# Altium schematic symbol library kmilo17pet-TI_BattMgmt.SchLib: 950 symbols (part 56 of 60)
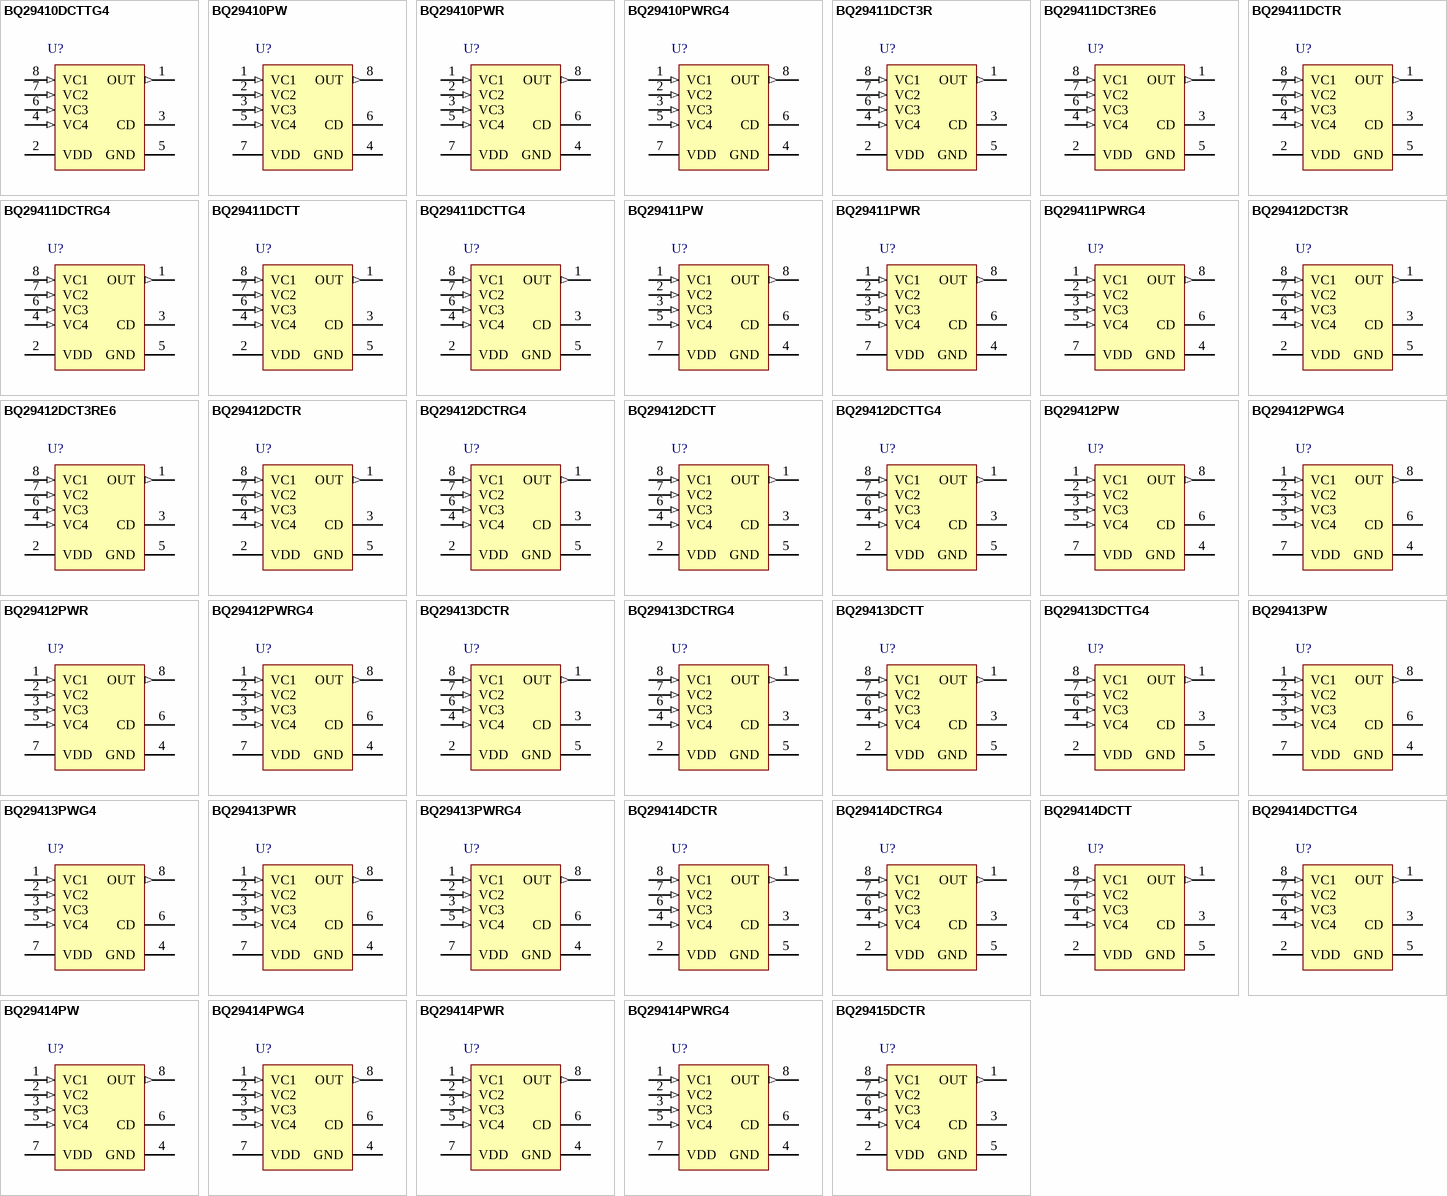
[diagram p89: symbols BQ29410DCTTG4 to BQ29415DCTR]

## BQ29412PWRG4
designator U?
Secondary Over Voltage Protection for 2 to 4 Cell in Series Li-Ion / Poly (4.45 V), 8-pin TSSOP (PW), Green (RoHS & no Sb/Br); PartNumber: BQ29412PWRG4; Manufacturer: Texas Instruments; Lead Acid: N; Li-Ion: Y; SubFamily: Lithium Ion Protection; DatasheetVersion: SLUS669G; PackageVersion: revG, Feb-2011; PackageReference: PW8; PackageDescription: 8-Pin Plastic Thin Small Outline Package 3 x 4.4 mm Body ,0.65 mm Pitch; Supplier 1: Digi-Key; Supplier Part Number 1: 296-21724-2-ND; Supplier Part Number 3: 296-21724-6-ND; Eco-Plan: Green (RoHS & no Sb/Br); Li-Polymer: Y; NiCd: N; NiMH: N; Over Voltage Protection: Y; Mounting Technology: Surface Mount; Code_JEDEC: MO-153; ComponentLink1Description: Datasheet; ComponentLink1URL: http://www.ti.com/general/docs/lit/getliterature.tsp?genericPartNumber=BQ29412&fileType=pdf
footprint PW8_N (TSOP, 8-Leads, Body 3x4.4mm, Pitch 0.65mm, IPC Medium Density)
footprint PW8_L (TSOP, 8-Leads, Body 3x4.4mm, Pitch 0.65mm, IPC High Density)
footprint PW8_M (TSOP, 8-Leads, Body 3x4.4mm, Pitch 0.65mm, IPC Low Density)
pins: 1 VC1 (in) "Sense voltage input for most positive cell", 2 VC2 (in) "Sense voltage input for second most positive cell", 3 VC3 (in) "Sense voltage input for third most positive cell", 4 GND (power) "Ground pin", 5 VC4 (in) "Sense voltage input for least positive cell", 6 CD "An external capacitor is connected to determine the programmable delay time", 7 VDD (power) "Power supply", 8 OUT (out) "Output"

## BQ29413DCTR
designator U?
Secondary Over Voltage Protection for 2 to 4 Cell in Series Li-Ion / Poly (4.50 V), -40 to 110 degC, 8-pin SM8 (DCT), Green (RoHS & no Sb/Br); PartNumber: BQ29413DCTR; Manufacturer: Texas Instruments; Lead Acid: N; Over Voltage Protection: Y; SubFamily: Lithium Ion Protection; DatasheetVersion: SLUS669G; PackageVersion: revC, Sep-2002; PackageReference: DCT8; PackageDescription: 8-Pin Thin Small Outline Package 3 x 2.8 mm Body ,0.65 mm Pitch; Supplier 1: Digi-Key; Supplier Part Number 1: 296-21328-2-ND; Supplier Part Number 3: 296-21328-6-ND; Eco-Plan: Green (RoHS & no Sb/Br); Li-Ion: N; Li-Polymer: N; NiCd: N; NiMH: N; Mounting Technology: Surface Mount; Code_JEDEC: MO-187-DA; ComponentLink1Description: Datasheet; ComponentLink1URL: http://www.ti.com/general/docs/lit/getliterature.tsp?genericPartNumber=BQ29413&fileType=pdf
footprint DCT8_N (TSOP, 8-Leads, Body 3x2.8mm, Pitch 0.65mm, IPC Medium Density)
footprint DCT8_L (TSOP, 8-Leads, Body 3x2.8mm, Pitch 0.65mm, IPC High Density)
footprint DCT8_M (TSOP, 8-Leads, Body 3x2.8mm, Pitch 0.65mm, IPC Low Density)
pins: 1 OUT (out) "Output", 2 VDD (power) "Power supply", 3 CD "An external capacitor is connected to determine the programmable delay time", 4 VC4 (in) "Sense voltage input for least positive cell", 5 GND (power) "Ground pin", 6 VC3 (in) "Sense voltage input for third most positive cell", 7 VC2 (in) "Sense voltage input for second most positive cell", 8 VC1 (in) "Sense voltage input for most positive cell"

## BQ29413DCTRG4
designator U?
Secondary Over Voltage Protection for 2 to 4 Cell in Series Li-Ion / Poly (4.50 V), -40 to 110 degC, 8-pin SM8 (DCT), Green (RoHS & no Sb/Br); PartNumber: BQ29413DCTRG4; Manufacturer: Texas Instruments; Lead Acid: N; Over Voltage Protection: Y; SubFamily: Lithium Ion Protection; DatasheetVersion: SLUS669G; PackageVersion: revC, Sep-2002; PackageReference: DCT8; PackageDescription: 8-Pin Thin Small Outline Package 3 x 2.8 mm Body ,0.65 mm Pitch; Supplier 1: Digi-Key; Supplier Part Number 1: BQ29413DCTRG4-ND; Supplier Part Number 3: 595-BQ29413DCTRG4; Eco-Plan: Green (RoHS & no Sb/Br); Li-Ion: N; Li-Polymer: N; NiCd: N; NiMH: N; Mounting Technology: Surface Mount; Code_JEDEC: MO-187-DA; ComponentLink1Description: Datasheet; ComponentLink1URL: http://www.ti.com/general/docs/lit/getliterature.tsp?genericPartNumber=BQ29413&fileType=pdf
footprint DCT8_N (TSOP, 8-Leads, Body 3x2.8mm, Pitch 0.65mm, IPC Medium Density)
footprint DCT8_L (TSOP, 8-Leads, Body 3x2.8mm, Pitch 0.65mm, IPC High Density)
footprint DCT8_M (TSOP, 8-Leads, Body 3x2.8mm, Pitch 0.65mm, IPC Low Density)
pins: 1 OUT (out) "Output", 2 VDD (power) "Power supply", 3 CD "An external capacitor is connected to determine the programmable delay time", 4 VC4 (in) "Sense voltage input for least positive cell", 5 GND (power) "Ground pin", 6 VC3 (in) "Sense voltage input for third most positive cell", 7 VC2 (in) "Sense voltage input for second most positive cell", 8 VC1 (in) "Sense voltage input for most positive cell"

## BQ29413DCTT
designator U?
Secondary Over Voltage Protection for 2 to 4 Cell in Series Li-Ion / Poly (4.50 V), -40 to 110 degC, 8-pin SM8 (DCT), Green (RoHS & no Sb/Br); PartNumber: BQ29413DCTT; Manufacturer: Texas Instruments; Lead Acid: N; Over Voltage Protection: Y; SubFamily: Lithium Ion Protection; DatasheetVersion: SLUS669G; PackageVersion: revC, Sep-2002; PackageReference: DCT8; PackageDescription: 8-Pin Thin Small Outline Package 3 x 2.8 mm Body ,0.65 mm Pitch; Supplier 1: Digi-Key; Supplier Part Number 1: 296-32041-2-ND; Supplier Part Number 3: 296-32041-6-ND; Eco-Plan: Green (RoHS & no Sb/Br); Li-Ion: N; Li-Polymer: N; NiCd: N; NiMH: N; Mounting Technology: Surface Mount; Code_JEDEC: MO-187-DA; ComponentLink1Description: Datasheet; ComponentLink1URL: http://www.ti.com/general/docs/lit/getliterature.tsp?genericPartNumber=BQ29413&fileType=pdf
footprint DCT8_N (TSOP, 8-Leads, Body 3x2.8mm, Pitch 0.65mm, IPC Medium Density)
footprint DCT8_L (TSOP, 8-Leads, Body 3x2.8mm, Pitch 0.65mm, IPC High Density)
footprint DCT8_M (TSOP, 8-Leads, Body 3x2.8mm, Pitch 0.65mm, IPC Low Density)
pins: 1 OUT (out) "Output", 2 VDD (power) "Power supply", 3 CD "An external capacitor is connected to determine the programmable delay time", 4 VC4 (in) "Sense voltage input for least positive cell", 5 GND (power) "Ground pin", 6 VC3 (in) "Sense voltage input for third most positive cell", 7 VC2 (in) "Sense voltage input for second most positive cell", 8 VC1 (in) "Sense voltage input for most positive cell"

## BQ29413DCTTG4
designator U?
Secondary Over Voltage Protection for 2 to 4 Cell in Series Li-Ion / Poly (4.50 V), -40 to 110 degC, 8-pin SM8 (DCT), Green (RoHS & no Sb/Br); PartNumber: BQ29413DCTTG4; Manufacturer: Texas Instruments; Lead Acid: N; Over Voltage Protection: Y; SubFamily: Lithium Ion Protection; DatasheetVersion: SLUS669G; PackageVersion: revC, Sep-2002; PackageReference: DCT8; PackageDescription: 8-Pin Thin Small Outline Package 3 x 2.8 mm Body ,0.65 mm Pitch; Supplier 1: Digi-Key; Supplier Part Number 1: BQ29413DCTTG4-ND; Eco-Plan: Green (RoHS & no Sb/Br); Li-Ion: N; Li-Polymer: N; NiCd: N; NiMH: N; Mounting Technology: Surface Mount; Code_JEDEC: MO-187-DA; ComponentLink1Description: Datasheet; ComponentLink1URL: http://www.ti.com/general/docs/lit/getliterature.tsp?genericPartNumber=BQ29413&fileType=pdf
footprint DCT8_N (TSOP, 8-Leads, Body 3x2.8mm, Pitch 0.65mm, IPC Medium Density)
footprint DCT8_L (TSOP, 8-Leads, Body 3x2.8mm, Pitch 0.65mm, IPC High Density)
footprint DCT8_M (TSOP, 8-Leads, Body 3x2.8mm, Pitch 0.65mm, IPC Low Density)
pins: 1 OUT (out) "Output", 2 VDD (power) "Power supply", 3 CD "An external capacitor is connected to determine the programmable delay time", 4 VC4 (in) "Sense voltage input for least positive cell", 5 GND (power) "Ground pin", 6 VC3 (in) "Sense voltage input for third most positive cell", 7 VC2 (in) "Sense voltage input for second most positive cell", 8 VC1 (in) "Sense voltage input for most positive cell"

## BQ29413PW
designator U?
Secondary Over Voltage Protection for 2 to 4 Cell in Series Li-Ion / Poly (4.50 V), -40 to 110 degC, 8-pin TSSOP (PW), Green (RoHS & no Sb/Br); PartNumber: BQ29413PW; Manufacturer: Texas Instruments; Lead Acid: N; Over Voltage Protection: Y; SubFamily: Lithium Ion Protection; DatasheetVersion: SLUS669G; PackageVersion: revG, Feb-2011; PackageReference: PW8; PackageDescription: 8-Pin Plastic Thin Small Outline Package 3 x 4.4 mm Body ,0.65 mm Pitch; Supplier 1: Digi-Key; Supplier Part Number 1: BQ29413PW-ND; Eco-Plan: Green (RoHS & no Sb/Br); Li-Ion: N; Li-Polymer: N; NiCd: N; NiMH: N; Mounting Technology: Surface Mount; Code_JEDEC: MO-153; ComponentLink1Description: Datasheet; ComponentLink1URL: http://www.ti.com/general/docs/lit/getliterature.tsp?genericPartNumber=BQ29413&fileType=pdf
footprint PW8_N (TSOP, 8-Leads, Body 3x4.4mm, Pitch 0.65mm, IPC Medium Density)
footprint PW8_L (TSOP, 8-Leads, Body 3x4.4mm, Pitch 0.65mm, IPC High Density)
footprint PW8_M (TSOP, 8-Leads, Body 3x4.4mm, Pitch 0.65mm, IPC Low Density)
pins: 1 VC1 (in) "Sense voltage input for most positive cell", 2 VC2 (in) "Sense voltage input for second most positive cell", 3 VC3 (in) "Sense voltage input for third most positive cell", 4 GND (power) "Ground pin", 5 VC4 (in) "Sense voltage input for least positive cell", 6 CD "An external capacitor is connected to determine the programmable delay time", 7 VDD (power) "Power supply", 8 OUT (out) "Output"

## BQ29413PWG4
designator U?
Secondary Over Voltage Protection for 2 to 4 Cell in Series Li-Ion / Poly (4.50 V), -40 to 110 degC, 8-pin TSSOP (PW), Green (RoHS & no Sb/Br); PartNumber: BQ29413PWG4; Manufacturer: Texas Instruments; Lead Acid: N; Over Voltage Protection: Y; SubFamily: Lithium Ion Protection; DatasheetVersion: SLUS669G; PackageVersion: revG, Feb-2011; PackageReference: PW8; PackageDescription: 8-Pin Plastic Thin Small Outline Package 3 x 4.4 mm Body ,0.65 mm Pitch; Supplier 1: Digi-Key; Supplier Part Number 1: BQ29413PWG4-ND; Eco-Plan: Green (RoHS & no Sb/Br); Li-Ion: N; Li-Polymer: N; NiCd: N; NiMH: N; Mounting Technology: Surface Mount; Code_JEDEC: MO-153; ComponentLink1Description: Datasheet; ComponentLink1URL: http://www.ti.com/general/docs/lit/getliterature.tsp?genericPartNumber=BQ29413&fileType=pdf
footprint PW8_N (TSOP, 8-Leads, Body 3x4.4mm, Pitch 0.65mm, IPC Medium Density)
footprint PW8_L (TSOP, 8-Leads, Body 3x4.4mm, Pitch 0.65mm, IPC High Density)
footprint PW8_M (TSOP, 8-Leads, Body 3x4.4mm, Pitch 0.65mm, IPC Low Density)
pins: 1 VC1 (in) "Sense voltage input for most positive cell", 2 VC2 (in) "Sense voltage input for second most positive cell", 3 VC3 (in) "Sense voltage input for third most positive cell", 4 GND (power) "Ground pin", 5 VC4 (in) "Sense voltage input for least positive cell", 6 CD "An external capacitor is connected to determine the programmable delay time", 7 VDD (power) "Power supply", 8 OUT (out) "Output"

## BQ29413PWR
designator U?
Secondary Over Voltage Protection for 2 to 4 Cell in Series Li-Ion / Poly (4.50 V), -40 to 110 degC, 8-pin TSSOP (PW), Green (RoHS & no Sb/Br); PartNumber: BQ29413PWR; Manufacturer: Texas Instruments; Lead Acid: N; Over Voltage Protection: Y; SubFamily: Lithium Ion Protection; DatasheetVersion: SLUS669G; PackageVersion: revG, Feb-2011; PackageReference: PW8; PackageDescription: 8-Pin Plastic Thin Small Outline Package 3 x 4.4 mm Body ,0.65 mm Pitch; Supplier 1: Digi-Key; Supplier Part Number 1: 296-21329-2-ND; Supplier Part Number 3: 296-21329-6-ND; Eco-Plan: Green (RoHS & no Sb/Br); Li-Ion: N; Li-Polymer: N; NiCd: N; NiMH: N; Mounting Technology: Surface Mount; Code_JEDEC: MO-153; ComponentLink1Description: Datasheet; ComponentLink1URL: http://www.ti.com/general/docs/lit/getliterature.tsp?genericPartNumber=BQ29413&fileType=pdf
footprint PW8_N (TSOP, 8-Leads, Body 3x4.4mm, Pitch 0.65mm, IPC Medium Density)
footprint PW8_L (TSOP, 8-Leads, Body 3x4.4mm, Pitch 0.65mm, IPC High Density)
footprint PW8_M (TSOP, 8-Leads, Body 3x4.4mm, Pitch 0.65mm, IPC Low Density)
pins: 1 VC1 (in) "Sense voltage input for most positive cell", 2 VC2 (in) "Sense voltage input for second most positive cell", 3 VC3 (in) "Sense voltage input for third most positive cell", 4 GND (power) "Ground pin", 5 VC4 (in) "Sense voltage input for least positive cell", 6 CD "An external capacitor is connected to determine the programmable delay time", 7 VDD (power) "Power supply", 8 OUT (out) "Output"

## BQ29413PWRG4
designator U?
Secondary Over Voltage Protection for 2 to 4 Cell in Series Li-Ion / Poly (4.50 V), -40 to 110 degC, 8-pin TSSOP (PW), Green (RoHS & no Sb/Br); PartNumber: BQ29413PWRG4; Manufacturer: Texas Instruments; Lead Acid: N; Over Voltage Protection: Y; SubFamily: Lithium Ion Protection; DatasheetVersion: SLUS669G; PackageVersion: revG, Feb-2011; PackageReference: PW8; PackageDescription: 8-Pin Plastic Thin Small Outline Package 3 x 4.4 mm Body ,0.65 mm Pitch; Supplier 1: Digi-Key; Supplier Part Number 1: BQ29413PWRG4-ND; Supplier Part Number 3: 595-BQ29413PWRG4; Eco-Plan: Green (RoHS & no Sb/Br); Li-Ion: N; Li-Polymer: N; NiCd: N; NiMH: N; Mounting Technology: Surface Mount; Code_JEDEC: MO-153; ComponentLink1Description: Datasheet; ComponentLink1URL: http://www.ti.com/general/docs/lit/getliterature.tsp?genericPartNumber=BQ29413&fileType=pdf
footprint PW8_N (TSOP, 8-Leads, Body 3x4.4mm, Pitch 0.65mm, IPC Medium Density)
footprint PW8_L (TSOP, 8-Leads, Body 3x4.4mm, Pitch 0.65mm, IPC High Density)
footprint PW8_M (TSOP, 8-Leads, Body 3x4.4mm, Pitch 0.65mm, IPC Low Density)
pins: 1 VC1 (in) "Sense voltage input for most positive cell", 2 VC2 (in) "Sense voltage input for second most positive cell", 3 VC3 (in) "Sense voltage input for third most positive cell", 4 GND (power) "Ground pin", 5 VC4 (in) "Sense voltage input for least positive cell", 6 CD "An external capacitor is connected to determine the programmable delay time", 7 VDD (power) "Power supply", 8 OUT (out) "Output"

## BQ29414DCTR
designator U?
Secondary Over-Voltage Protection for 2 to 4 Cell in Series Li-Ion / Poly (4.55 V), -40 to 110 degC, 8-pin SM8 (DCT), Green (RoHS & no Sb/Br); PartNumber: BQ29414DCTR; Manufacturer: Texas Instruments; Lead Acid: N; Li-Ion: Y; SubFamily: Lithium Ion Protection; DatasheetVersion: SLUS669G; PackageVersion: revC, Sep-2002; PackageReference: DCT8; PackageDescription: 8-Pin Thin Small Outline Package 3 x 2.8 mm Body ,0.65 mm Pitch; Supplier 1: Digi-Key; Supplier Part Number 1: 296-21377-2-ND; Supplier Part Number 3: 296-21377-6-ND; Eco-Plan: Green (RoHS & no Sb/Br); Li-Polymer: Y; NiCd: N; NiMH: N; Over Voltage Protection: Y; Mounting Technology: Surface Mount; Code_JEDEC: MO-187-DA; ComponentLink1Description: Datasheet; ComponentLink1URL: http://www.ti.com/general/docs/lit/getliterature.tsp?genericPartNumber=BQ29414&fileType=pdf
footprint DCT8_N (TSOP, 8-Leads, Body 3x2.8mm, Pitch 0.65mm, IPC Medium Density)
footprint DCT8_L (TSOP, 8-Leads, Body 3x2.8mm, Pitch 0.65mm, IPC High Density)
footprint DCT8_M (TSOP, 8-Leads, Body 3x2.8mm, Pitch 0.65mm, IPC Low Density)
pins: 1 OUT (out) "Output", 2 VDD (power) "Power supply", 3 CD "An external capacitor is connected to determine the programmable delay time", 4 VC4 (in) "Sense voltage input for least positive cell", 5 GND (power) "Ground pin", 6 VC3 (in) "Sense voltage input for third most positive cell", 7 VC2 (in) "Sense voltage input for second most positive cell", 8 VC1 (in) "Sense voltage input for most positive cell"

## BQ29414DCTRG4
designator U?
Secondary Over Voltage Protection for 2 to 4 Cell in Series Li-Ion / Poly (4.55 V), -40 to 110 degC, 8-pin SM8 (DCT), Green (RoHS & no Sb/Br); PartNumber: BQ29414DCTRG4; Manufacturer: Texas Instruments; Lead Acid: N; Li-Ion: Y; SubFamily: Lithium Ion Protection; DatasheetVersion: SLUS669G; PackageVersion: revC, Sep-2002; PackageReference: DCT8; PackageDescription: 8-Pin Thin Small Outline Package 3 x 2.8 mm Body ,0.65 mm Pitch; Supplier 1: Digi-Key; Supplier Part Number 1: BQ29414DCTRG4-ND; Supplier Part Number 3: 595-BQ29414DCTRG4; Eco-Plan: Green (RoHS & no Sb/Br); Li-Polymer: Y; NiCd: N; NiMH: N; Over Voltage Protection: Y; Mounting Technology: Surface Mount; Code_JEDEC: MO-187-DA; ComponentLink1Description: Datasheet; ComponentLink1URL: http://www.ti.com/general/docs/lit/getliterature.tsp?genericPartNumber=BQ29414&fileType=pdf
footprint DCT8_N (TSOP, 8-Leads, Body 3x2.8mm, Pitch 0.65mm, IPC Medium Density)
footprint DCT8_L (TSOP, 8-Leads, Body 3x2.8mm, Pitch 0.65mm, IPC High Density)
footprint DCT8_M (TSOP, 8-Leads, Body 3x2.8mm, Pitch 0.65mm, IPC Low Density)
pins: 1 OUT (out) "Output", 2 VDD (power) "Power supply", 3 CD "An external capacitor is connected to determine the programmable delay time", 4 VC4 (in) "Sense voltage input for least positive cell", 5 GND (power) "Ground pin", 6 VC3 (in) "Sense voltage input for third most positive cell", 7 VC2 (in) "Sense voltage input for second most positive cell", 8 VC1 (in) "Sense voltage input for most positive cell"

## BQ29414DCTT
designator U?
Secondary Over Voltage Protection for 2 to 4 Cell in Series Li-Ion / Poly (4.55 V), -40 to 110 degC, 8-pin SM8 (DCT), Green (RoHS & no Sb/Br); PartNumber: BQ29414DCTT; Manufacturer: Texas Instruments; Lead Acid: N; Li-Ion: Y; SubFamily: Lithium Ion Protection; DatasheetVersion: SLUS669G; PackageVersion: revC, Sep-2002; PackageReference: DCT8; PackageDescription: 8-Pin Thin Small Outline Package 3 x 2.8 mm Body ,0.65 mm Pitch; Supplier 1: Digi-Key; Supplier Part Number 1: BQ29414DCTT-ND; Eco-Plan: Green (RoHS & no Sb/Br); Li-Polymer: Y; NiCd: N; NiMH: N; Over Voltage Protection: Y; Mounting Technology: Surface Mount; Code_JEDEC: MO-187-DA; ComponentLink1Description: Datasheet; ComponentLink1URL: http://www.ti.com/general/docs/lit/getliterature.tsp?genericPartNumber=BQ29414&fileType=pdf
footprint DCT8_N (TSOP, 8-Leads, Body 3x2.8mm, Pitch 0.65mm, IPC Medium Density)
footprint DCT8_L (TSOP, 8-Leads, Body 3x2.8mm, Pitch 0.65mm, IPC High Density)
footprint DCT8_M (TSOP, 8-Leads, Body 3x2.8mm, Pitch 0.65mm, IPC Low Density)
pins: 1 OUT (out) "Output", 2 VDD (power) "Power supply", 3 CD "An external capacitor is connected to determine the programmable delay time", 4 VC4 (in) "Sense voltage input for least positive cell", 5 GND (power) "Ground pin", 6 VC3 (in) "Sense voltage input for third most positive cell", 7 VC2 (in) "Sense voltage input for second most positive cell", 8 VC1 (in) "Sense voltage input for most positive cell"

## BQ29414DCTTG4
designator U?
Secondary Over Voltage Protection for 2 to 4 Cell in Series Li-Ion / Poly (4.55 V), -40 to 110 degC, 8-pin SM8 (DCT), Green (RoHS & no Sb/Br); PartNumber: BQ29414DCTTG4; Manufacturer: Texas Instruments; Lead Acid: N; Li-Ion: Y; SubFamily: Lithium Ion Protection; DatasheetVersion: SLUS669G; PackageVersion: revC, Sep-2002; PackageReference: DCT8; PackageDescription: 8-Pin Thin Small Outline Package 3 x 2.8 mm Body ,0.65 mm Pitch; Supplier 1: Digi-Key; Supplier Part Number 1: BQ29414DCTTG4-ND; Eco-Plan: Green (RoHS & no Sb/Br); Li-Polymer: Y; NiCd: N; NiMH: N; Over Voltage Protection: Y; Mounting Technology: Surface Mount; Code_JEDEC: MO-187-DA; ComponentLink1Description: Datasheet; ComponentLink1URL: http://www.ti.com/general/docs/lit/getliterature.tsp?genericPartNumber=BQ29414&fileType=pdf
footprint DCT8_N (TSOP, 8-Leads, Body 3x2.8mm, Pitch 0.65mm, IPC Medium Density)
footprint DCT8_L (TSOP, 8-Leads, Body 3x2.8mm, Pitch 0.65mm, IPC High Density)
footprint DCT8_M (TSOP, 8-Leads, Body 3x2.8mm, Pitch 0.65mm, IPC Low Density)
pins: 1 OUT (out) "Output", 2 VDD (power) "Power supply", 3 CD "An external capacitor is connected to determine the programmable delay time", 4 VC4 (in) "Sense voltage input for least positive cell", 5 GND (power) "Ground pin", 6 VC3 (in) "Sense voltage input for third most positive cell", 7 VC2 (in) "Sense voltage input for second most positive cell", 8 VC1 (in) "Sense voltage input for most positive cell"

## BQ29414PW
designator U?
Secondary Over Voltage Protection for 2 to 4 Cell in Series Li-Ion / Poly (4.55 V), -40 to 110 degC, 8-pin TSSOP (PW), Green (RoHS & no Sb/Br); PartNumber: BQ29414PW; Manufacturer: Texas Instruments; Lead Acid: N; Li-Ion: Y; SubFamily: Lithium Ion Protection; DatasheetVersion: SLUS669G; PackageVersion: revG, Feb-2011; PackageReference: PW8; PackageDescription: 8-Pin Plastic Thin Small Outline Package 3 x 4.4 mm Body ,0.65 mm Pitch; Supplier 1: Digi-Key; Supplier Part Number 1: BQ29414PW-ND; Supplier Part Number 3: 33P6589; Eco-Plan: Green (RoHS & no Sb/Br); Li-Polymer: Y; NiCd: N; NiMH: N; Over Voltage Protection: Y; Mounting Technology: Surface Mount; Code_JEDEC: MO-153; ComponentLink1Description: Datasheet; ComponentLink1URL: http://www.ti.com/general/docs/lit/getliterature.tsp?genericPartNumber=BQ29414&fileType=pdf
footprint PW8_N (TSOP, 8-Leads, Body 3x4.4mm, Pitch 0.65mm, IPC Medium Density)
footprint PW8_L (TSOP, 8-Leads, Body 3x4.4mm, Pitch 0.65mm, IPC High Density)
footprint PW8_M (TSOP, 8-Leads, Body 3x4.4mm, Pitch 0.65mm, IPC Low Density)
pins: 1 VC1 (in) "Sense voltage input for most positive cell", 2 VC2 (in) "Sense voltage input for second most positive cell", 3 VC3 (in) "Sense voltage input for third most positive cell", 4 GND (power) "Ground pin", 5 VC4 (in) "Sense voltage input for least positive cell", 6 CD "An external capacitor is connected to determine the programmable delay time", 7 VDD (power) "Power supply", 8 OUT (out) "Output"

## BQ29414PWG4
designator U?
Secondary Over Voltage Protection for 2 to 4 Cell in Series Li-Ion / Poly (4.55 V), -40 to 110 degC, 8-pin TSSOP (PW), Green (RoHS & no Sb/Br); PartNumber: BQ29414PWG4; Manufacturer: Texas Instruments; Lead Acid: N; Li-Ion: Y; SubFamily: Lithium Ion Protection; DatasheetVersion: SLUS669G; PackageVersion: revG, Feb-2011; PackageReference: PW8; PackageDescription: 8-Pin Plastic Thin Small Outline Package 3 x 4.4 mm Body ,0.65 mm Pitch; Supplier 1: Digi-Key; Supplier Part Number 1: BQ29414PWG4-ND; Eco-Plan: Green (RoHS & no Sb/Br); Li-Polymer: Y; NiCd: N; NiMH: N; Over Voltage Protection: Y; Mounting Technology: Surface Mount; Code_JEDEC: MO-153; ComponentLink1Description: Datasheet; ComponentLink1URL: http://www.ti.com/general/docs/lit/getliterature.tsp?genericPartNumber=BQ29414&fileType=pdf
footprint PW8_N (TSOP, 8-Leads, Body 3x4.4mm, Pitch 0.65mm, IPC Medium Density)
footprint PW8_L (TSOP, 8-Leads, Body 3x4.4mm, Pitch 0.65mm, IPC High Density)
footprint PW8_M (TSOP, 8-Leads, Body 3x4.4mm, Pitch 0.65mm, IPC Low Density)
pins: 1 VC1 (in) "Sense voltage input for most positive cell", 2 VC2 (in) "Sense voltage input for second most positive cell", 3 VC3 (in) "Sense voltage input for third most positive cell", 4 GND (power) "Ground pin", 5 VC4 (in) "Sense voltage input for least positive cell", 6 CD "An external capacitor is connected to determine the programmable delay time", 7 VDD (power) "Power supply", 8 OUT (out) "Output"

## BQ29414PWR
designator U?
Secondary Over Voltage Protection for 2 to 4 Cell in Series Li-Ion / Poly (4.55 V), -40 to 110 degC, 8-pin TSSOP (PW), Green (RoHS & no Sb/Br); PartNumber: BQ29414PWR; Manufacturer: Texas Instruments; Lead Acid: N; Li-Ion: Y; SubFamily: Lithium Ion Protection; DatasheetVersion: SLUS669G; PackageVersion: revG, Feb-2011; PackageReference: PW8; PackageDescription: 8-Pin Plastic Thin Small Outline Package 3 x 4.4 mm Body ,0.65 mm Pitch; Supplier 1: Digi-Key; Supplier Part Number 1: 296-21378-2-ND; Supplier Part Number 3: 296-21378-6-ND; Eco-Plan: Green (RoHS & no Sb/Br); Li-Polymer: Y; NiCd: N; NiMH: N; Over Voltage Protection: Y; Mounting Technology: Surface Mount; Code_JEDEC: MO-153; ComponentLink1Description: Datasheet; ComponentLink1URL: http://www.ti.com/general/docs/lit/getliterature.tsp?genericPartNumber=BQ29414&fileType=pdf
footprint PW8_N (TSOP, 8-Leads, Body 3x4.4mm, Pitch 0.65mm, IPC Medium Density)
footprint PW8_L (TSOP, 8-Leads, Body 3x4.4mm, Pitch 0.65mm, IPC High Density)
footprint PW8_M (TSOP, 8-Leads, Body 3x4.4mm, Pitch 0.65mm, IPC Low Density)
pins: 1 VC1 (in) "Sense voltage input for most positive cell", 2 VC2 (in) "Sense voltage input for second most positive cell", 3 VC3 (in) "Sense voltage input for third most positive cell", 4 GND (power) "Ground pin", 5 VC4 (in) "Sense voltage input for least positive cell", 6 CD "An external capacitor is connected to determine the programmable delay time", 7 VDD (power) "Power supply", 8 OUT (out) "Output"

## BQ29414PWRG4
designator U?
Secondary Over Voltage Protection for 2 to 4 Cell in Series Li-Ion / Poly (4.55 V), -40 to 110 degC, 8-pin TSSOP (PW), Green (RoHS & no Sb/Br); PartNumber: BQ29414PWRG4; Manufacturer: Texas Instruments; Lead Acid: N; Li-Ion: Y; SubFamily: Lithium Ion Protection; DatasheetVersion: SLUS669G; PackageVersion: revG, Feb-2011; PackageReference: PW8; PackageDescription: 8-Pin Plastic Thin Small Outline Package 3 x 4.4 mm Body ,0.65 mm Pitch; Supplier 1: Digi-Key; Supplier Part Number 1: BQ29414PWRG4-ND; Supplier Part Number 3: 595-BQ29414PWRG4; Eco-Plan: Green (RoHS & no Sb/Br); Li-Polymer: Y; NiCd: N; NiMH: N; Over Voltage Protection: Y; Mounting Technology: Surface Mount; Code_JEDEC: MO-153; ComponentLink1Description: Datasheet; ComponentLink1URL: http://www.ti.com/general/docs/lit/getliterature.tsp?genericPartNumber=BQ29414&fileType=pdf
footprint PW8_N (TSOP, 8-Leads, Body 3x4.4mm, Pitch 0.65mm, IPC Medium Density)
footprint PW8_L (TSOP, 8-Leads, Body 3x4.4mm, Pitch 0.65mm, IPC High Density)
footprint PW8_M (TSOP, 8-Leads, Body 3x4.4mm, Pitch 0.65mm, IPC Low Density)
pins: 1 VC1 (in) "Sense voltage input for most positive cell", 2 VC2 (in) "Sense voltage input for second most positive cell", 3 VC3 (in) "Sense voltage input for third most positive cell", 4 GND (power) "Ground pin", 5 VC4 (in) "Sense voltage input for least positive cell", 6 CD "An external capacitor is connected to determine the programmable delay time", 7 VDD (power) "Power supply", 8 OUT (out) "Output"

## BQ29415DCTR
designator U?
Secondary Over Voltage Protection for 2 to 4 Cell in Series Li-Ion / Poly (4.60 V), -40 to 110 degC, 8-pin SM8 (DCT), Green (RoHS & no Sb/Br); PartNumber: BQ29415DCTR; Manufacturer: Texas Instruments; Lead Acid: N; Li-Ion: Y; SubFamily: Lithium Ion Protection; DatasheetVersion: SLUS669G; PackageVersion: revC, Sep-2002; PackageReference: DCT8; PackageDescription: 8-Pin Thin Small Outline Package 3 x 2.8 mm Body ,0.65 mm Pitch; Supplier 1: Digi-Key; Supplier Part Number 1: 296-21379-2-ND; Supplier Part Number 3: 296-21379-6-ND; Eco-Plan: Green (RoHS & no Sb/Br); Li-Polymer: Y; NiCd: N; NiMH: N; Over Voltage Protection: Y; Mounting Technology: Surface Mount; Code_JEDEC: MO-187-DA; ComponentLink1Description: Datasheet; ComponentLink1URL: http://www.ti.com/general/docs/lit/getliterature.tsp?genericPartNumber=BQ29415&fileType=pdf
footprint DCT8_N (TSOP, 8-Leads, Body 3x2.8mm, Pitch 0.65mm, IPC Medium Density)
footprint DCT8_L (TSOP, 8-Leads, Body 3x2.8mm, Pitch 0.65mm, IPC High Density)
footprint DCT8_M (TSOP, 8-Leads, Body 3x2.8mm, Pitch 0.65mm, IPC Low Density)
pins: 1 OUT (out) "Output", 2 VDD (power) "Power supply", 3 CD "An external capacitor is connected to determine the programmable delay time", 4 VC4 (in) "Sense voltage input for least positive cell", 5 GND (power) "Ground pin", 6 VC3 (in) "Sense voltage input for third most positive cell", 7 VC2 (in) "Sense voltage input for second most positive cell", 8 VC1 (in) "Sense voltage input for most positive cell"

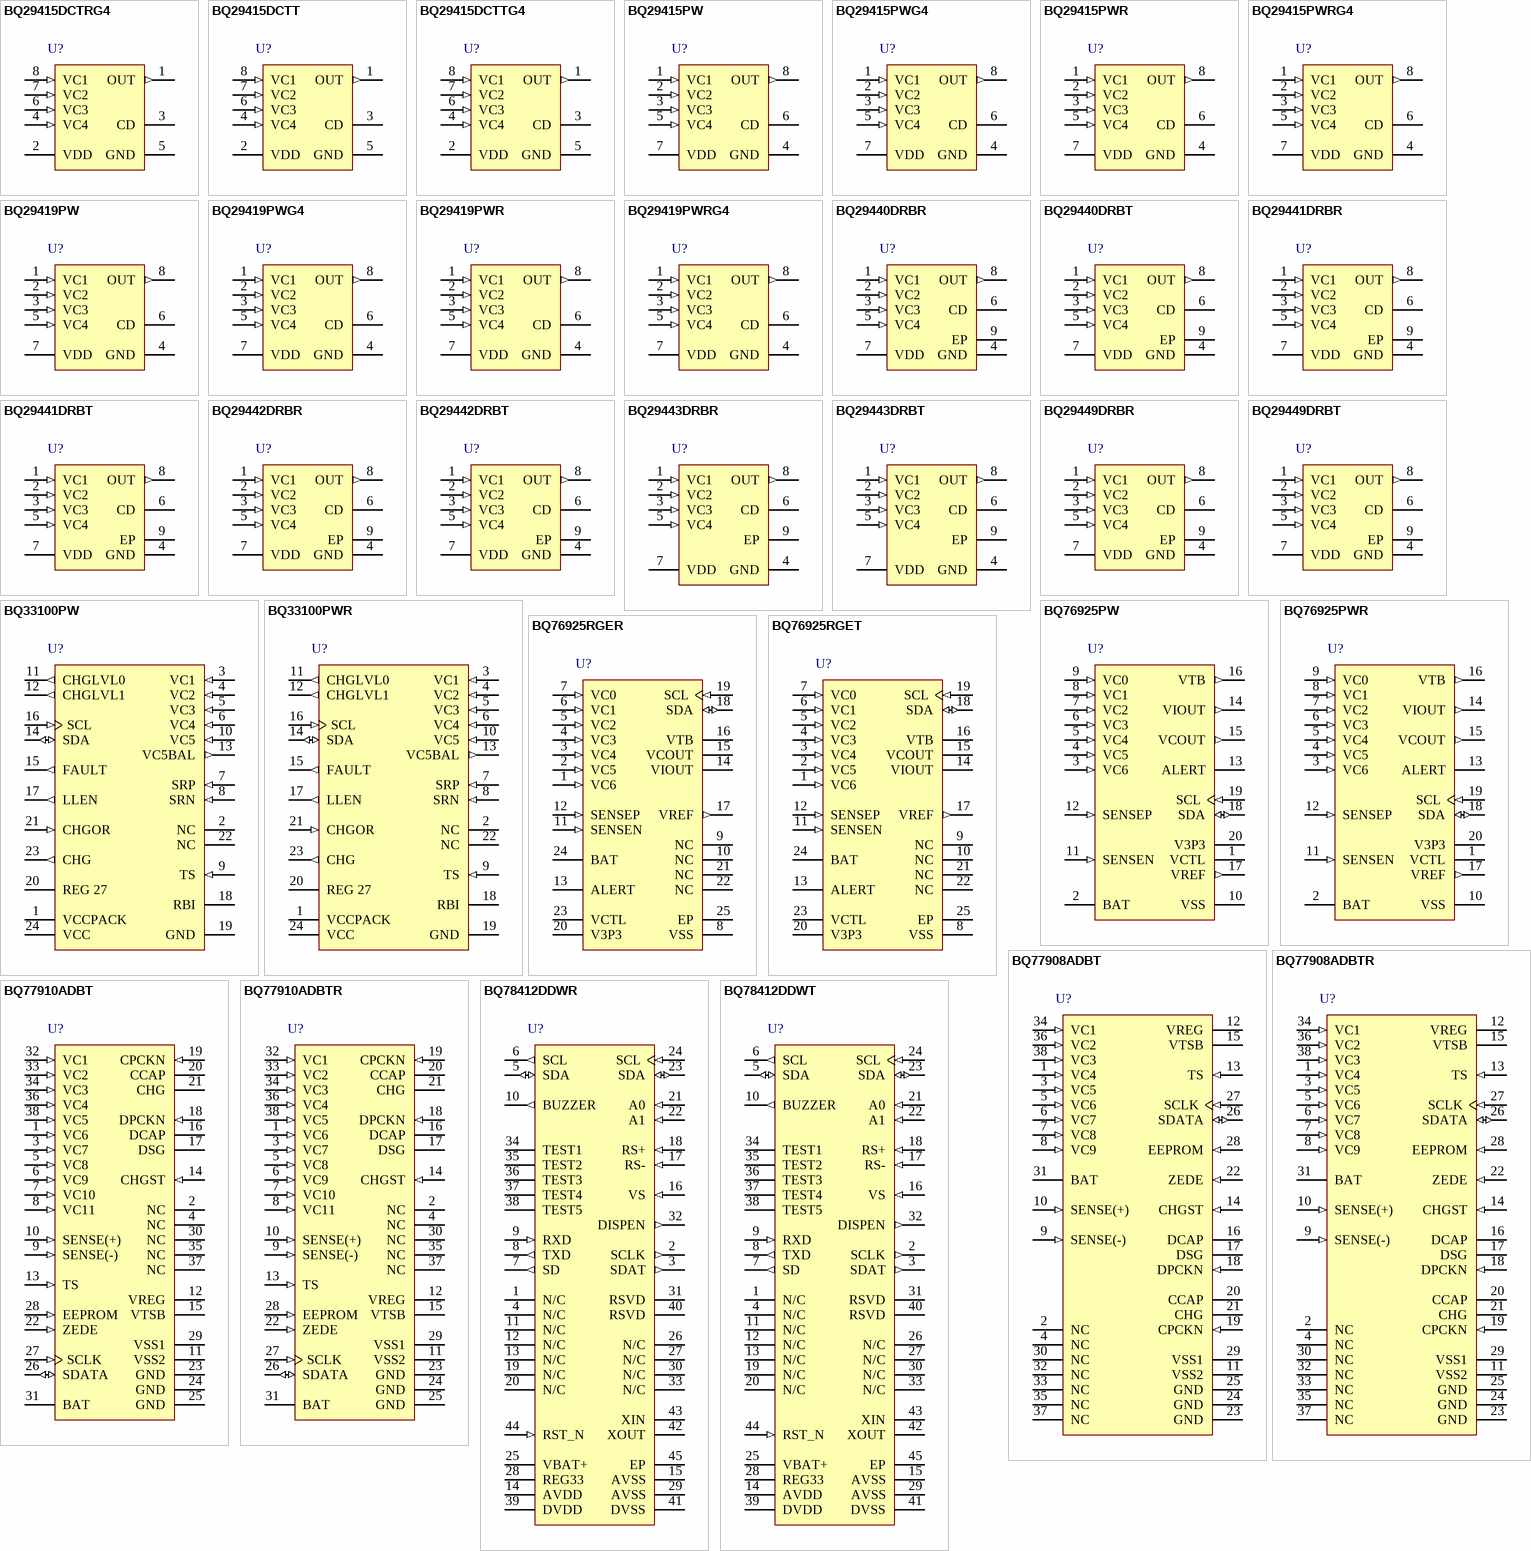
[diagram p32: symbols BQ29415DCTRG4 to BQ78412DDWT]

## BQ29415DCTRG4
designator U?
Secondary Over Voltage Protection for 2 to 4 Cell in Series Li-Ion / Poly (4.60 V), -40 to 110 degC, 8-pin SM8 (DCT), Green (RoHS & no Sb/Br); PartNumber: BQ29415DCTRG4; Manufacturer: Texas Instruments; Lead Acid: N; Li-Ion: Y; SubFamily: Lithium Ion Protection; DatasheetVersion: SLUS669G; PackageVersion: revC, Sep-2002; PackageReference: DCT8; PackageDescription: 8-Pin Thin Small Outline Package 3 x 2.8 mm Body ,0.65 mm Pitch; Supplier 1: Digi-Key; Supplier Part Number 1: BQ29415DCTRG4-ND; Supplier Part Number 3: 595-BQ29415DCTRG4; Eco-Plan: Green (RoHS & no Sb/Br); Li-Polymer: Y; NiCd: N; NiMH: N; Over Voltage Protection: Y; Mounting Technology: Surface Mount; Code_JEDEC: MO-187-DA; ComponentLink1Description: Datasheet; ComponentLink1URL: http://www.ti.com/general/docs/lit/getliterature.tsp?genericPartNumber=BQ29415&fileType=pdf
footprint DCT8_N (TSOP, 8-Leads, Body 3x2.8mm, Pitch 0.65mm, IPC Medium Density)
footprint DCT8_L (TSOP, 8-Leads, Body 3x2.8mm, Pitch 0.65mm, IPC High Density)
footprint DCT8_M (TSOP, 8-Leads, Body 3x2.8mm, Pitch 0.65mm, IPC Low Density)
pins: 1 OUT (out) "Output", 2 VDD (power) "Power supply", 3 CD "An external capacitor is connected to determine the programmable delay time", 4 VC4 (in) "Sense voltage input for least positive cell", 5 GND (power) "Ground pin", 6 VC3 (in) "Sense voltage input for third most positive cell", 7 VC2 (in) "Sense voltage input for second most positive cell", 8 VC1 (in) "Sense voltage input for most positive cell"

## BQ29415DCTT
designator U?
Secondary Over Voltage Protection for 2 to 4 Cell in Series Li-Ion / Poly (4.60 V), -40 to 110 degC, 8-pin SM8 (DCT), Green (RoHS & no Sb/Br); PartNumber: BQ29415DCTT; Manufacturer: Texas Instruments; Lead Acid: N; Li-Ion: Y; SubFamily: Lithium Ion Protection; DatasheetVersion: SLUS669G; PackageVersion: revC, Sep-2002; PackageReference: DCT8; PackageDescription: 8-Pin Thin Small Outline Package 3 x 2.8 mm Body ,0.65 mm Pitch; Supplier 1: Digi-Key; Supplier Part Number 1: BQ29415DCTT-ND; Supplier Part Number 3: 595-BQ29415DCTT; Eco-Plan: Green (RoHS & no Sb/Br); Li-Polymer: Y; NiCd: N; NiMH: N; Over Voltage Protection: Y; Mounting Technology: Surface Mount; Code_JEDEC: MO-187-DA; ComponentLink1Description: Datasheet; ComponentLink1URL: http://www.ti.com/general/docs/lit/getliterature.tsp?genericPartNumber=BQ29415&fileType=pdf
footprint DCT8_N (TSOP, 8-Leads, Body 3x2.8mm, Pitch 0.65mm, IPC Medium Density)
footprint DCT8_L (TSOP, 8-Leads, Body 3x2.8mm, Pitch 0.65mm, IPC High Density)
footprint DCT8_M (TSOP, 8-Leads, Body 3x2.8mm, Pitch 0.65mm, IPC Low Density)
pins: 1 OUT (out) "Output", 2 VDD (power) "Power supply", 3 CD "An external capacitor is connected to determine the programmable delay time", 4 VC4 (in) "Sense voltage input for least positive cell", 5 GND (power) "Ground pin", 6 VC3 (in) "Sense voltage input for third most positive cell", 7 VC2 (in) "Sense voltage input for second most positive cell", 8 VC1 (in) "Sense voltage input for most positive cell"

## BQ29415DCTTG4
designator U?
Secondary Over Voltage Protection for 2 to 4 Cell in Series Li-Ion / Poly (4.60 V), -40 to 110 degC, 8-pin SM8 (DCT), Green (RoHS & no Sb/Br); PartNumber: BQ29415DCTTG4; Manufacturer: Texas Instruments; Lead Acid: N; Li-Ion: Y; SubFamily: Lithium Ion Protection; DatasheetVersion: SLUS669G; PackageVersion: revC, Sep-2002; PackageReference: DCT8; PackageDescription: 8-Pin Thin Small Outline Package 3 x 2.8 mm Body ,0.65 mm Pitch; Supplier 1: Digi-Key; Supplier Part Number 1: BQ29415DCTTG4-ND; Supplier Part Number 3: 595-BQ29415DCTTG4; Eco-Plan: Green (RoHS & no Sb/Br); Li-Polymer: Y; NiCd: N; NiMH: N; Over Voltage Protection: Y; Mounting Technology: Surface Mount; Code_JEDEC: MO-187-DA; ComponentLink1Description: Datasheet; ComponentLink1URL: http://www.ti.com/general/docs/lit/getliterature.tsp?genericPartNumber=BQ29415&fileType=pdf
footprint DCT8_N (TSOP, 8-Leads, Body 3x2.8mm, Pitch 0.65mm, IPC Medium Density)
footprint DCT8_L (TSOP, 8-Leads, Body 3x2.8mm, Pitch 0.65mm, IPC High Density)
footprint DCT8_M (TSOP, 8-Leads, Body 3x2.8mm, Pitch 0.65mm, IPC Low Density)
pins: 1 OUT (out) "Output", 2 VDD (power) "Power supply", 3 CD "An external capacitor is connected to determine the programmable delay time", 4 VC4 (in) "Sense voltage input for least positive cell", 5 GND (power) "Ground pin", 6 VC3 (in) "Sense voltage input for third most positive cell", 7 VC2 (in) "Sense voltage input for second most positive cell", 8 VC1 (in) "Sense voltage input for most positive cell"

## BQ29415PW
designator U?
Secondary Over Voltage Protection for 2 to 4 Cell in Series Li-Ion / Poly (4.60 V), -40 to 110 degC, 8-pin TSSOP (PW), Green (RoHS & no Sb/Br); PartNumber: BQ29415PW; Manufacturer: Texas Instruments; Lead Acid: N; Li-Ion: Y; SubFamily: Lithium Ion Protection; DatasheetVersion: SLUS669G; PackageVersion: revG, Feb-2011; PackageReference: PW8; PackageDescription: 8-Pin Plastic Thin Small Outline Package 3 x 4.4 mm Body ,0.65 mm Pitch; Supplier 1: Digi-Key; Supplier Part Number 1: BQ29415PW-ND; Eco-Plan: Green (RoHS & no Sb/Br); Li-Polymer: Y; NiCd: N; NiMH: N; Over Voltage Protection: Y; Mounting Technology: Surface Mount; Code_JEDEC: MO-153; ComponentLink1Description: Datasheet; ComponentLink1URL: http://www.ti.com/general/docs/lit/getliterature.tsp?genericPartNumber=BQ29415&fileType=pdf
footprint PW8_N (TSOP, 8-Leads, Body 3x4.4mm, Pitch 0.65mm, IPC Medium Density)
footprint PW8_L (TSOP, 8-Leads, Body 3x4.4mm, Pitch 0.65mm, IPC High Density)
footprint PW8_M (TSOP, 8-Leads, Body 3x4.4mm, Pitch 0.65mm, IPC Low Density)
pins: 1 VC1 (in) "Sense voltage input for most positive cell", 2 VC2 (in) "Sense voltage input for second most positive cell", 3 VC3 (in) "Sense voltage input for third most positive cell", 4 GND (power) "Ground pin", 5 VC4 (in) "Sense voltage input for least positive cell", 6 CD "An external capacitor is connected to determine the programmable delay time", 7 VDD (power) "Power supply", 8 OUT (out) "Output"

## BQ29415PWG4
designator U?
Secondary Over Voltage Protection for 2 to 4 Cell in Series Li-Ion / Poly (4.60 V), -40 to 110 degC, 8-pin TSSOP (PW), Green (RoHS & no Sb/Br); PartNumber: BQ29415PWG4; Manufacturer: Texas Instruments; Lead Acid: N; Li-Ion: Y; SubFamily: Lithium Ion Protection; DatasheetVersion: SLUS669G; PackageVersion: revG, Feb-2011; PackageReference: PW8; PackageDescription: 8-Pin Plastic Thin Small Outline Package 3 x 4.4 mm Body ,0.65 mm Pitch; Supplier 1: Digi-Key; Supplier Part Number 1: BQ29415PWG4-ND; Eco-Plan: Green (RoHS & no Sb/Br); Li-Polymer: Y; NiCd: N; NiMH: N; Over Voltage Protection: Y; Mounting Technology: Surface Mount; Code_JEDEC: MO-153; ComponentLink1Description: Datasheet; ComponentLink1URL: http://www.ti.com/general/docs/lit/getliterature.tsp?genericPartNumber=BQ29415&fileType=pdf
footprint PW8_N (TSOP, 8-Leads, Body 3x4.4mm, Pitch 0.65mm, IPC Medium Density)
footprint PW8_L (TSOP, 8-Leads, Body 3x4.4mm, Pitch 0.65mm, IPC High Density)
footprint PW8_M (TSOP, 8-Leads, Body 3x4.4mm, Pitch 0.65mm, IPC Low Density)
pins: 1 VC1 (in) "Sense voltage input for most positive cell", 2 VC2 (in) "Sense voltage input for second most positive cell", 3 VC3 (in) "Sense voltage input for third most positive cell", 4 GND (power) "Ground pin", 5 VC4 (in) "Sense voltage input for least positive cell", 6 CD "An external capacitor is connected to determine the programmable delay time", 7 VDD (power) "Power supply", 8 OUT (out) "Output"

## BQ29415PWR
designator U?
Secondary Over Voltage Protection for 2 to 4 Cell in Series Li-Ion / Poly (4.60 V), -40 to 110 degC, 8-pin TSSOP (PW), Green (RoHS & no Sb/Br); PartNumber: BQ29415PWR; Manufacturer: Texas Instruments; Lead Acid: N; Li-Ion: Y; SubFamily: Lithium Ion Protection; DatasheetVersion: SLUS669G; PackageVersion: revG, Feb-2011; PackageReference: PW8; PackageDescription: 8-Pin Plastic Thin Small Outline Package 3 x 4.4 mm Body ,0.65 mm Pitch; Supplier 1: Digi-Key; Supplier Part Number 1: 296-21380-2-ND; Supplier Part Number 3: 296-21380-6-ND; Eco-Plan: Green (RoHS & no Sb/Br); Li-Polymer: Y; NiCd: N; NiMH: N; Over Voltage Protection: Y; Mounting Technology: Surface Mount; Code_JEDEC: MO-153; ComponentLink1Description: Datasheet; ComponentLink1URL: http://www.ti.com/general/docs/lit/getliterature.tsp?genericPartNumber=BQ29415&fileType=pdf
footprint PW8_N (TSOP, 8-Leads, Body 3x4.4mm, Pitch 0.65mm, IPC Medium Density)
footprint PW8_L (TSOP, 8-Leads, Body 3x4.4mm, Pitch 0.65mm, IPC High Density)
footprint PW8_M (TSOP, 8-Leads, Body 3x4.4mm, Pitch 0.65mm, IPC Low Density)
pins: 1 VC1 (in) "Sense voltage input for most positive cell", 2 VC2 (in) "Sense voltage input for second most positive cell", 3 VC3 (in) "Sense voltage input for third most positive cell", 4 GND (power) "Ground pin", 5 VC4 (in) "Sense voltage input for least positive cell", 6 CD "An external capacitor is connected to determine the programmable delay time", 7 VDD (power) "Power supply", 8 OUT (out) "Output"

## BQ29415PWRG4
designator U?
Secondary Over Voltage Protection for 2 to 4 Cell in Series Li-Ion / Poly (4.60 V), -40 to 110 degC, 8-pin TSSOP (PW), Green (RoHS & no Sb/Br); PartNumber: BQ29415PWRG4; Manufacturer: Texas Instruments; Lead Acid: N; Li-Ion: Y; SubFamily: Lithium Ion Protection; DatasheetVersion: SLUS669G; PackageVersion: revG, Feb-2011; PackageReference: PW8; PackageDescription: 8-Pin Plastic Thin Small Outline Package 3 x 4.4 mm Body ,0.65 mm Pitch; Supplier 1: Digi-Key; Supplier Part Number 1: BQ29415PWRG4-ND; Supplier Part Number 3: 595-BQ29415PWRG4; Eco-Plan: Green (RoHS & no Sb/Br); Li-Polymer: Y; NiCd: N; NiMH: N; Over Voltage Protection: Y; Mounting Technology: Surface Mount; Code_JEDEC: MO-153; ComponentLink1Description: Datasheet; ComponentLink1URL: http://www.ti.com/general/docs/lit/getliterature.tsp?genericPartNumber=BQ29415&fileType=pdf
footprint PW8_N (TSOP, 8-Leads, Body 3x4.4mm, Pitch 0.65mm, IPC Medium Density)
footprint PW8_L (TSOP, 8-Leads, Body 3x4.4mm, Pitch 0.65mm, IPC High Density)
footprint PW8_M (TSOP, 8-Leads, Body 3x4.4mm, Pitch 0.65mm, IPC Low Density)
pins: 1 VC1 (in) "Sense voltage input for most positive cell", 2 VC2 (in) "Sense voltage input for second most positive cell", 3 VC3 (in) "Sense voltage input for third most positive cell", 4 GND (power) "Ground pin", 5 VC4 (in) "Sense voltage input for least positive cell", 6 CD "An external capacitor is connected to determine the programmable delay time", 7 VDD (power) "Power supply", 8 OUT (out) "Output"

## BQ29419PW
designator U?
Voltage Protection for 2, 3, or 4 Cell Li-Ion Batteries, -40 to 110 degC, 8-pin TSSOP (PW), Green (RoHS & no Sb/Br); PartNumber: BQ29419PW; Manufacturer: Texas Instruments; Lead Acid: N; Li-Ion: Y; SubFamily: Lithium Ion Protection; DatasheetVersion: SLUS669G; PackageVersion: revG, Feb-2011; PackageReference: PW8; PackageDescription: 8-Pin Plastic Thin Small Outline Package 3 x 4.4 mm Body ,0.65 mm Pitch; Supplier 1: Digi-Key; Supplier Part Number 1: 296-32619-ND; Supplier Part Number 3: 33P6590; Eco-Plan: Green (RoHS & no Sb/Br); Li-Polymer: Y; NiCd: N; NiMH: N; Over Voltage Protection: Y; Mounting Technology: Surface Mount; Code_JEDEC: MO-153; ComponentLink1Description: Datasheet; ComponentLink1URL: http://www.ti.com/general/docs/lit/getliterature.tsp?genericPartNumber=BQ29419&fileType=pdf
footprint PW8_N (TSOP, 8-Leads, Body 3x4.4mm, Pitch 0.65mm, IPC Medium Density)
footprint PW8_L (TSOP, 8-Leads, Body 3x4.4mm, Pitch 0.65mm, IPC High Density)
footprint PW8_M (TSOP, 8-Leads, Body 3x4.4mm, Pitch 0.65mm, IPC Low Density)
pins: 1 VC1 (in) "Sense voltage input for most positive cell", 2 VC2 (in) "Sense voltage input for second most positive cell", 3 VC3 (in) "Sense voltage input for third most positive cell", 4 GND (power) "Ground pin", 5 VC4 (in) "Sense voltage input for least positive cell", 6 CD "An external capacitor is connected to determine the programmable delay time", 7 VDD (power) "Power supply", 8 OUT (out) "Output"

## BQ29419PWG4
designator U?
Voltage Protection for 2, 3, or 4 Cell Li-Ion Batteries, -40 to 110 degC, 8-pin TSSOP (PW), Green (RoHS & no Sb/Br); PartNumber: BQ29419PWG4; Manufacturer: Texas Instruments; Lead Acid: N; Li-Ion: Y; SubFamily: Lithium Ion Protection; DatasheetVersion: SLUS669G; PackageVersion: revG, Feb-2011; PackageReference: PW8; PackageDescription: 8-Pin Plastic Thin Small Outline Package 3 x 4.4 mm Body ,0.65 mm Pitch; Supplier 1: Digi-Key; Supplier Part Number 1: BQ29419PWG4-ND; Supplier Part Number 3: 595-BQ29419PWG4; Eco-Plan: Green (RoHS & no Sb/Br); Li-Polymer: Y; NiCd: N; NiMH: N; Over Voltage Protection: Y; Mounting Technology: Surface Mount; Code_JEDEC: MO-153; ComponentLink1Description: Datasheet; ComponentLink1URL: http://www.ti.com/general/docs/lit/getliterature.tsp?genericPartNumber=BQ29419&fileType=pdf
footprint PW8_N (TSOP, 8-Leads, Body 3x4.4mm, Pitch 0.65mm, IPC Medium Density)
footprint PW8_L (TSOP, 8-Leads, Body 3x4.4mm, Pitch 0.65mm, IPC High Density)
footprint PW8_M (TSOP, 8-Leads, Body 3x4.4mm, Pitch 0.65mm, IPC Low Density)
pins: 1 VC1 (in) "Sense voltage input for most positive cell", 2 VC2 (in) "Sense voltage input for second most positive cell", 3 VC3 (in) "Sense voltage input for third most positive cell", 4 GND (power) "Ground pin", 5 VC4 (in) "Sense voltage input for least positive cell", 6 CD "An external capacitor is connected to determine the programmable delay time", 7 VDD (power) "Power supply", 8 OUT (out) "Output"

## BQ29419PWR
designator U?
Voltage Protection for 2, 3, or 4 Cell Li-Ion Batteries, -40 to 110 degC, 8-pin TSSOP (PW), Green (RoHS & no Sb/Br); PartNumber: BQ29419PWR; Manufacturer: Texas Instruments; Lead Acid: N; Li-Ion: Y; SubFamily: Lithium Ion Protection; DatasheetVersion: SLUS669G; PackageVersion: revG, Feb-2011; PackageReference: PW8; PackageDescription: 8-Pin Plastic Thin Small Outline Package 3 x 4.4 mm Body ,0.65 mm Pitch; Supplier 1: Digi-Key; Supplier Part Number 1: 296-22030-2-ND; Supplier Part Number 3: 296-22030-6-ND; Eco-Plan: Green (RoHS & no Sb/Br); Li-Polymer: Y; NiCd: N; NiMH: N; Over Voltage Protection: Y; Mounting Technology: Surface Mount; Code_JEDEC: MO-153; ComponentLink1Description: Datasheet; ComponentLink1URL: http://www.ti.com/general/docs/lit/getliterature.tsp?genericPartNumber=BQ29419&fileType=pdf
footprint PW8_N (TSOP, 8-Leads, Body 3x4.4mm, Pitch 0.65mm, IPC Medium Density)
footprint PW8_L (TSOP, 8-Leads, Body 3x4.4mm, Pitch 0.65mm, IPC High Density)
footprint PW8_M (TSOP, 8-Leads, Body 3x4.4mm, Pitch 0.65mm, IPC Low Density)
pins: 1 VC1 (in) "Sense voltage input for most positive cell", 2 VC2 (in) "Sense voltage input for second most positive cell", 3 VC3 (in) "Sense voltage input for third most positive cell", 4 GND (power) "Ground pin", 5 VC4 (in) "Sense voltage input for least positive cell", 6 CD "An external capacitor is connected to determine the programmable delay time", 7 VDD (power) "Power supply", 8 OUT (out) "Output"

## BQ29419PWRG4
designator U?
Voltage Protection for 2, 3, or 4 Cell Li-Ion Batteries, -40 to 110 degC, 8-pin TSSOP (PW), Green (RoHS & no Sb/Br); PartNumber: BQ29419PWRG4; Manufacturer: Texas Instruments; Lead Acid: N; Li-Ion: Y; SubFamily: Lithium Ion Protection; DatasheetVersion: SLUS669G; PackageVersion: revG, Feb-2011; PackageReference: PW8; PackageDescription: 8-Pin Plastic Thin Small Outline Package 3 x 4.4 mm Body ,0.65 mm Pitch; Supplier 1: Digi-Key; Supplier Part Number 1: BQ29419PWRG4-ND; Supplier Part Number 3: 595-BQ29419PWRG4; Eco-Plan: Green (RoHS & no Sb/Br); Li-Polymer: Y; NiCd: N; NiMH: N; Over Voltage Protection: Y; Mounting Technology: Surface Mount; Code_JEDEC: MO-153; ComponentLink1Description: Datasheet; ComponentLink1URL: http://www.ti.com/general/docs/lit/getliterature.tsp?genericPartNumber=BQ29419&fileType=pdf
footprint PW8_N (TSOP, 8-Leads, Body 3x4.4mm, Pitch 0.65mm, IPC Medium Density)
footprint PW8_L (TSOP, 8-Leads, Body 3x4.4mm, Pitch 0.65mm, IPC High Density)
footprint PW8_M (TSOP, 8-Leads, Body 3x4.4mm, Pitch 0.65mm, IPC Low Density)
pins: 1 VC1 (in) "Sense voltage input for most positive cell", 2 VC2 (in) "Sense voltage input for second most positive cell", 3 VC3 (in) "Sense voltage input for third most positive cell", 4 GND (power) "Ground pin", 5 VC4 (in) "Sense voltage input for least positive cell", 6 CD "An external capacitor is connected to determine the programmable delay time", 7 VDD (power) "Power supply", 8 OUT (out) "Output"

## BQ29440DRBR
designator U?
Secondary Over Voltage Protection for 2 to 4 cell in Series Li-Ion / Poly (4.35 V), -40 to 85 degC, 8-pin SON (DRB), Green (RoHS & no Sb/Br); PartNumber: BQ29440DRBR; Manufacturer: Texas Instruments; Lead Acid: N; SubFamily: Lithium Ion Protection; DatasheetVersion: SLUSA15C; PackageVersion: revK, Jun-2012; PackageReference: DRB8-2400X1650TP; PackageDescription: 8-Pin Plastic Small Outline No-Lead, 3 x 3 x 1 mm Body, 0.65 mm Pitch, Exposed Pad; Supplier 1: Digi-Key; Supplier Part Number 1: 296-27576-2-ND; Supplier Part Number 3: 296-27576-6-ND; Eco-Plan: Green (RoHS & no Sb/Br); Li-Ion: N; Li-Polymer: N; NiCd: N; NiMH: N; Over Voltage Protection: N; Mounting Technology: Surface Mount; ComponentLink1Description: Datasheet; ComponentLink1URL: http://www.ti.com/general/docs/lit/getliterature.tsp?genericPartNumber=BQ29440&fileType=pdf
footprint DRB8-2400X1650TP (SON, 8-Leads, Body 3x3mm, Pitch 0.65mm, Thermal Pad 2.4x1.65mm, TI Recommended)
pins: 1 VC1 (in) "Sense voltage input for top cell", 2 VC2 (in) "Sense voltage input for second-to-top cell", 3 VC3 (in) "Sense voltage input for third-to-top cell", 4 GND (power) "Ground pin", 5 VC4 (in) "Sense voltage input for fourth-to-top cell (bottom cell)", 6 CD "Connection to external capacitor for programmable delay time", 7 VDD (power) "Power supply", 8 OUT (out) "Output", 9 EP "Exposed thermal pad"

## BQ29440DRBT
designator U?
Secondary Over Voltage Protection for 2 to 4 cell in Series Li-Ion / Poly (4.35 V), -40 to 85 degC, 8-pin SON (DRB), Green (RoHS & no Sb/Br); PartNumber: BQ29440DRBT; Manufacturer: Texas Instruments; Lead Acid: N; SubFamily: Lithium Ion Protection; DatasheetVersion: SLUSA15C; PackageVersion: revK, Jun-2012; PackageReference: DRB8-2400X1650TP; PackageDescription: 8-Pin Plastic Small Outline No-Lead, 3 x 3 x 1 mm Body, 0.65 mm Pitch, Exposed Pad; Supplier 1: Digi-Key; Supplier Part Number 1: 296-27607-2-ND; Supplier Part Number 3: 296-27607-6-ND; Eco-Plan: Green (RoHS & no Sb/Br); Li-Ion: N; Li-Polymer: N; NiCd: N; NiMH: N; Over Voltage Protection: N; Mounting Technology: Surface Mount; ComponentLink1Description: Datasheet; ComponentLink1URL: http://www.ti.com/general/docs/lit/getliterature.tsp?genericPartNumber=BQ29440&fileType=pdf
footprint DRB8-2400X1650TP (SON, 8-Leads, Body 3x3mm, Pitch 0.65mm, Thermal Pad 2.4x1.65mm, TI Recommended)
pins: 1 VC1 (in) "Sense voltage input for top cell", 2 VC2 (in) "Sense voltage input for second-to-top cell", 3 VC3 (in) "Sense voltage input for third-to-top cell", 4 GND (power) "Ground pin", 5 VC4 (in) "Sense voltage input for fourth-to-top cell (bottom cell)", 6 CD "Connection to external capacitor for programmable delay time", 7 VDD (power) "Power supply", 8 OUT (out) "Output", 9 EP "Exposed thermal pad"

## BQ29441DRBR
designator U?
Voltage Protection for Two, Three, or Four-Cell Li-Ion Batteries (4.40 V), -40 to 85 degC, 8-pin SON (DRB), Green (RoHS & no Sb/Br); PartNumber: BQ29441DRBR; Manufacturer: Texas Instruments; Lead Acid: N; SubFamily: Lithium Ion Protection; DatasheetVersion: SLUSA15C; PackageVersion: revK, Jun-2012; PackageReference: DRB8-2400X1650TP; PackageDescription: 8-Pin Plastic Small Outline No-Lead, 3 x 3 x 1 mm Body, 0.65 mm Pitch, Exposed Pad; Supplier 1: Digi-Key; Supplier Part Number 1: 296-28072-2-ND; Supplier Part Number 3: 296-28072-6-ND; Eco-Plan: Green (RoHS & no Sb/Br); Li-Ion: N; Li-Polymer: N; NiCd: N; NiMH: N; Over Voltage Protection: N; Mounting Technology: Surface Mount; ComponentLink1Description: Datasheet; ComponentLink1URL: http://www.ti.com/general/docs/lit/getliterature.tsp?genericPartNumber=BQ29441&fileType=pdf
footprint DRB8-2400X1650TP (SON, 8-Leads, Body 3x3mm, Pitch 0.65mm, Thermal Pad 2.4x1.65mm, TI Recommended)
pins: 1 VC1 (in) "Sense voltage input for top cell", 2 VC2 (in) "Sense voltage input for second-to-top cell", 3 VC3 (in) "Sense voltage input for third-to-top cell", 4 GND (power) "Ground pin", 5 VC4 (in) "Sense voltage input for fourth-to-top cell (bottom cell)", 6 CD "Connection to external capacitor for programmable delay time", 7 VDD (power) "Power supply", 8 OUT (out) "Output", 9 EP "Exposed Thermal Pad"

## BQ29441DRBT
designator U?
Voltage Protection for Two, Three, or Four-Cell Li-Ion Batteries (4.40 V), -40 to 85 degC, 8-pin SON (DRB), Green (RoHS & no Sb/Br); PartNumber: BQ29441DRBT; Manufacturer: Texas Instruments; Lead Acid: N; SubFamily: Lithium Ion Protection; DatasheetVersion: SLUSA15C; PackageVersion: revK, Jun-2012; PackageReference: DRB8-2400X1650TP; PackageDescription: 8-Pin Plastic Small Outline No-Lead, 3 x 3 x 1 mm Body, 0.65 mm Pitch, Exposed Pad; Supplier 1: Digi-Key; Supplier Part Number 1: BQ29441DRBT-ND; Eco-Plan: Green (RoHS & no Sb/Br); Li-Ion: N; Li-Polymer: N; NiCd: N; NiMH: N; Over Voltage Protection: N; Mounting Technology: Surface Mount; ComponentLink1Description: Datasheet; ComponentLink1URL: http://www.ti.com/general/docs/lit/getliterature.tsp?genericPartNumber=BQ29441&fileType=pdf
footprint DRB8-2400X1650TP (SON, 8-Leads, Body 3x3mm, Pitch 0.65mm, Thermal Pad 2.4x1.65mm, TI Recommended)
pins: 1 VC1 (in) "Sense voltage input for top cell", 2 VC2 (in) "Sense voltage input for second-to-top cell", 3 VC3 (in) "Sense voltage input for third-to-top cell", 4 GND (power) "Ground pin", 5 VC4 (in) "Sense voltage input for fourth-to-top cell (bottom cell)", 6 CD "Connection to external capacitor for programmable delay time", 7 VDD (power) "Power supply", 8 OUT (out) "Output", 9 EP "Exposed Thermal Pad"